# Altium schematic symbol library Switch.SchLib: 1 symbol
Pins are listed as number, name and electrical type; pins without a type are passive.

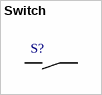
[diagram p0: symbol Switch]

## Switch
designator S?, comment ?H 0805  (value not drawn)
Manufacturer_Name: KEMET; Manufacturer_Part_Number: RC0805FR-07100RP; Geometry.Height: 0.6mm; Mouser Part Number: 603-RC0805FR-07100RP; Mouser Price/Stock: https://www.mouser.co.uk/ProductDetail/YAGEO/RC0805FR-07100RP?qs=oypCK0zG324cSp99F0GBZw%3D%3D; Arrow Part Number: RC0805FR-07100RP; Arrow Price/Stock: https://www.arrow.com/en/products/rc0805fr-07100rp/yageo?region=nac; Datasheet Link: https://www.arrow.com/en/products/rc0805fr-07100rp/yageo?region=nac
footprint Switch
footprint Switch
pins: 1, 2